# Altium schematic symbol library Schlib1.SchLib: 26 symbols
Pins are listed as number, name and electrical type; pins without a type are passive.

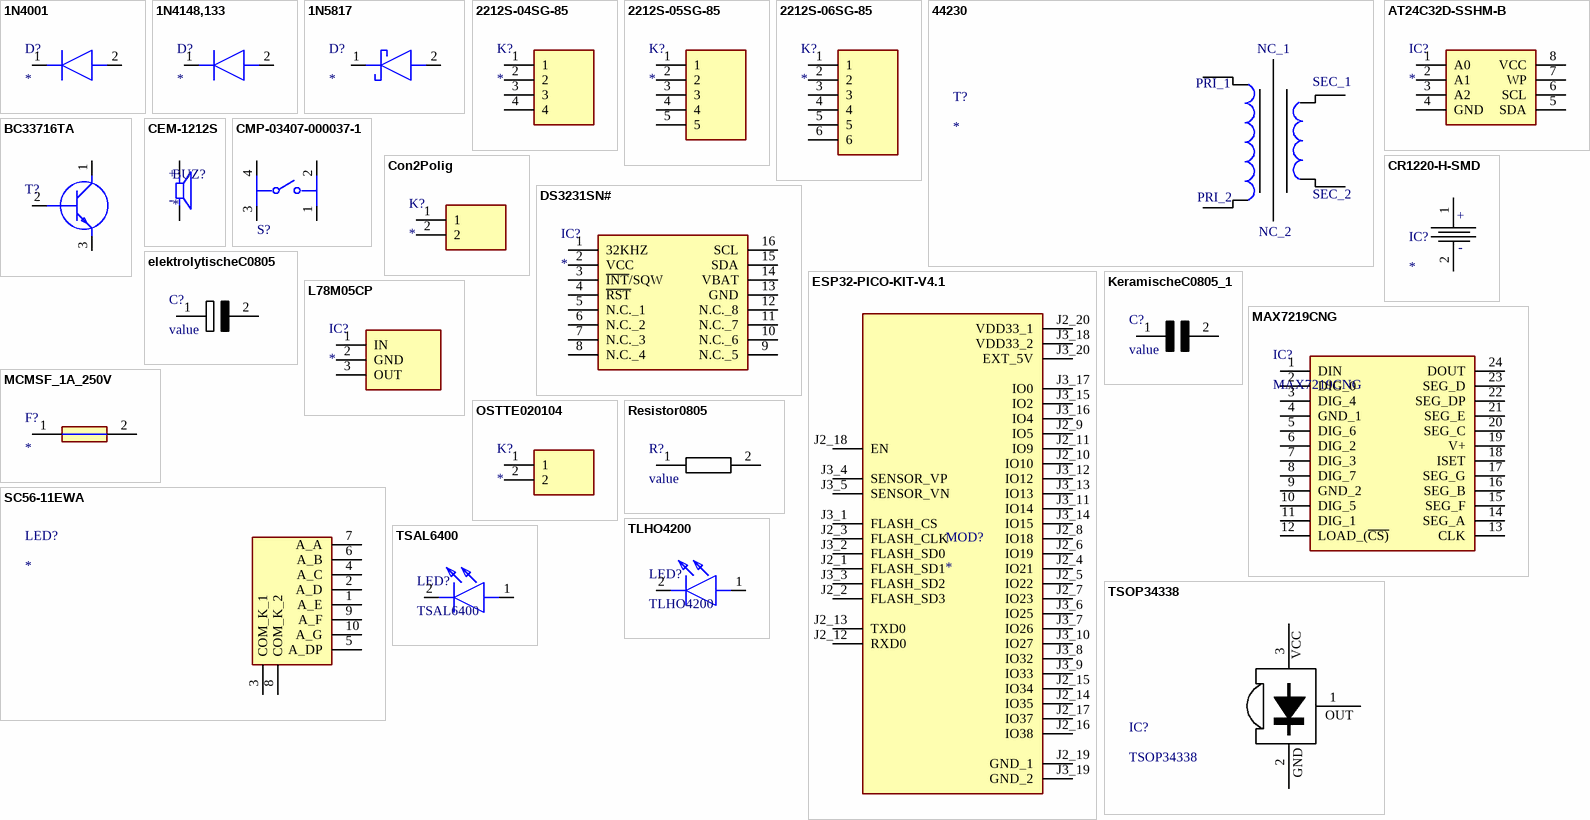
[diagram p0: symbols 1N4001 to TSOP34338]

## 1N4001
designator D?
Diode; Manufacturer_Name: Vishay; Manufacturer_Part_Number: 1N4001; Datasheet Link: https://www.vishay.com/docs/88503/1n4001.pdf
footprint DIOAD1405W86L465D235
pins: 1 K, 2 A

## 1N4148,133
designator D?
Diode; Manufacturer_Name: Nexperia; Manufacturer_Part_Number: 1N4148,133; Description: Diodes - General Purpose; Datasheet Link: https://assets.nexperia.com/documents/data-sheet/1N4148_1N4448.pdf; Mouser Part Number: 771-1N4148,133; Mouser Price/Stock: https://www.mouser.co.uk/ProductDetail/Nexperia/1N4148133?qs=elmhQ6eFu7hy8ApvpFxPZg%3D%3D; Arrow Part Number: 1N4148,133; Arrow Price/Stock: https://www.arrow.com/en/products/1n4148133/nxp-semiconductors
footprint DIOAD1165W56L425D185
pins: 1 K, 2 A

## 1N5817
designator D?
Schottky Diode; Manufacturer_Name: Rectron; Manufacturer_Part_Number: 1N5817; Datasheet Link: https://www.arrow.com/en/products/1n5817/rectron; Arrow Part Number: 1N5817; Arrow Price/Stock: https://www.arrow.com/en/products/1n5817/rectron?region=nac
footprint 1n5817_footprint
pins: 1 K, 2 A

## 2212S-04SG-85
designator K?
Connector; Manufacturer_Name: Multicomp Pro; Manufacturer_Part_Number: 2212S-04SG-85; Datasheet Link: https://componentsearchengine.com/Datasheets/5/2212S-04SG-85.pdf; Height: 8.7mm
footprint 2212S04SG85
pins: 1, 2, 3, 4

## 2212S-05SG-85
designator K?
Connector; Manufacturer_Name: Multicomp Pro; Manufacturer_Part_Number: 2212S-05SG-85; Datasheet Link: https://componentsearchengine.com/Datasheets/2/2212S-05SG-85.pdf; Height: 8.5mm
footprint RHDR5W74P0X254_1X5_1320X250X850P
pins: 1, 2, 3, 4, 5

## 2212S-06SG-85
designator K?
Connector; Manufacturer_Name: Multicomp Pro; Manufacturer_Part_Number: 2212S-06SG-85; Datasheet Link: http://www.farnell.com/datasheets/2290158.pdf?_ga=2.3406896.1671530057.1506933545-2008293027.1497013038; Height: 8.5mm
footprint RHDR6W74P0X254_1X6_1574X250X850P
pins: 1, 2, 3, 4, 5, 6

## 44230
designator T?
Transformer; Manufacturer_Name: MYRRA; Manufacturer_Part_Number: 44230; Datasheet Link: https://componentsearchengine.com/Datasheets/2/44230.pdf; Height: 32.8mm; Arrow Part Number: 44230; Arrow Price/Stock: https://www.arrow.com/en/products/44230/myrra?region=europe
footprint 44230
pins: 1 PRI_1, 5 PRI_2, 6 NC_1, 7 SEC_1, 9 SEC_2, 10 NC_2

## AT24C32D-SSHM-B
designator IC?
Integrated Circuit; Manufacturer_Name: Microchip; Description: AT24C32D-SSHM-B; Datasheet Link: http://www.atmel.com/images/atmel-8866-seeprom-at24c32d-datasheet.pdf; Height: 1.75mm; Manufacturer_Part_Number: AT24C32D-SSHM-B; Mouser Part Number: 556-AT24C32D-SSHM-B; Mouser Price/Stock: https://www.mouser.co.uk/ProductDetail/Microchip-Technology/AT24C32D-SSHM-B?qs=ZZMt4ii29sN2mTRLl%2FnVJA%3D%3D; Arrow Part Number: AT24C32D-SSHM-B; Arrow Price/Stock: https://www.arrow.com/en/products/at24c32d-sshm-b/microchip-technology?region=europe
footprint SOIC127P600X175-8N
pins: 1 A0, 2 A1, 3 A2, 4 GND, 5 SDA, 6 SCL, 7 WP, 8 VCC

## BC33716TA
designator T?  (value not drawn)
Transistor BJT NPN; Manufacturer_Name: onsemi; Datasheet Link: https://rocelec.widen.net/view/pdf/hcqqbqwrik/ONSM-S-A0003590550-1.pdf?t.download=true&u=5oefqw; Height: 8.77mm; Manufacturer_Part_Number: BC33716TA; Mouser Part Number: 512-BC33716TA; Mouser Price/Stock: https://www.mouser.co.uk/ProductDetail/onsemi-Fairchild/BC33716TA?qs=UMEuL5FsraA5fR076NzQDQ%3D%3D; Arrow Part Number: BC33716TA; Arrow Price/Stock: https://www.arrow.com/en/products/bc33716ta/on-semiconductor?region=nac
footprint BC33716TA
pins: 1 C, 2 B, 3 E

## CEM-1212S
designator BUZ?
12 mm, 12 V, 85 dB, Through Hole, Sealed, Magnetic Audio Transducer Buzzer; MP: CEM-1212S; MF: CUI Devices; Arrow_Electronics-Purchase-URL: https://snapeda.com/shop?store=Arrow+Electronics&id=601563; Value: *; SnapEDA_Link: https://www.snapeda.com/parts/CEM-1212S/CUI%20Devices/view-part/601563/?ref=snap; CUI_purchase_URL: https://www.cuidevices.com/product/audio/buzzers/audio-transducers/cem-1212s?utm_source=snapeda.com&utm_medium=referral&utm_campaign=snapedaBOM; Availability: Good; Mouser-Purchase-URL: https://snapeda.com/shop?store=Mouser&id=601563; Price: None; DigiKey-Purchase-URL: https://snapeda.com/shop?store=DigiKey&id=601563; Package: TO-220 CUI Inc.
footprint CUI_CEM-1212S
pins: M, P
text: +; -

## CMP-03407-000037-1
designator S?, comment FSM103  (value not drawn)
SWITCH TACTILE SPST-NO 0.05A 24V; Contact Resistance: 100mR; Actuator Length: 3.4mm; Switch Function: Off-Mom; Operating Force: 1.57N; Illumination Type: Non-Illuminated; Voltage Rating (DC): 12V; Current Rating: 50mA; Actuator Material: Polyester; Switch Travel: 0.3mm; Throw Configuration: SPST; Actuator Color: Black; Mechanical Life: 100000Cycles; Depth: 14.1mm; RoHS Compliant: Yes; Max Operating Temperature: 85°C; Mount: Through Hole; Min Operating Temperature: -35°C; Contact Plating: Silver; Width: 12mm; Package Quantity: 400; Radiation Hardening: No; Series: FSM100 ~ 104; Type: Switch; Termination: PC Pins; Voltage Rating: 24V; Contact Material: Brass; Max Voltage Rating (DC): 12V; Contact Current Rating: 50mA; Length: 12mm; Packaging: Loose Piece; Orientation: Straight; Max Current Rating: 50mA; Electrical Life: 100000Cycles
footprint FP-FSM103-MFG
pins: 1, 2, 3, 4

## Con2Polig
designator K?
Connector; Manufacturer_Name: On Shore Technology Inc.; Manufacturer_Part_Number: OSTTE020104; Datasheet Link: https://datasheet.datasheetarchive.com/originals/dk/DKDS-18/336634.pdf; Height: 8.7mm
footprint Con2Polig (2 polige schroefconnector)
pins: 1, 2

## CR1220-H-SMD
designator IC?
Integrated Circuit; Manufacturer_Name: ROBOTIS; Manufacturer_Part_Number: CR1220-H-SMD; Description: 1 x Battery holder - CR1220 SMD; Datasheet Link: https://www.robotics.org.za/CR1220-H-SMD; Height: 4.1mm
footprint CR1220HSMD
pins: 1, 2
text: +; -

## DS3231SN#
designator IC?
Integrated Circuit; Manufacturer_Name: Analog Devices; Manufacturer_Part_Number: DS3231SN#; Description: Real Time Clock Serial Maxim DS3231SN# Real Time Clock; Datasheet Link: https://datasheets.maximintegrated.com/en/ds/DS3231.pdf; Height: 2.65mm; Mouser Part Number: 700-DS3231SN#; Mouser Price/Stock: https://www.mouser.co.uk/ProductDetail/Analog-Devices-Maxim-Integrated/DS3231SN?qs=1eQvB6Dk1vhUlr8%2FOrV0Fw%3D%3D; Arrow Part Number: DS3231SN#; Arrow Price/Stock: https://www.arrow.com/en/products/ds3231sn/analog-devices?region=europe
footprint SOIC127P1032X265-16N
pins: 1 32KHZ, 2 VCC, 3 ~{INT}/SQW, 4 ~{RST}, 5 N.C._1, 6 N.C._2, 7 N.C._3, 8 N.C._4, 9 N.C._5, 10 N.C._6, 11 N.C._7, 12 N.C._8, 13 GND, 14 VBAT, 15 SDA, 16 SCL

## elektrolytischeC0805
designator C?, comment value
0805 ceramic capacitor; Manufacturer_Name: Murata Electronics; Manufacturer_Part_Number: GRM188R71H103KA01D; Datasheet Link: https://datasheet.datasheetarchive.com/originals/distributors/Datasheets_SAMA/ec4f1577dddcc7a13ddad897a28002d3.pdf; Height: 0.9mm; Mouser Part Number: 81-GRM39X103K50D; Mouser Price/Stock: https://www.mouser.co.uk/ProductDetail/Murata-Electronics/GRM188R71H103KA01D?qs=WWniysbtxULrL2ljbViAbw%3D%3D; Arrow Part Number: GRM188R71H103KA01D; Arrow Price/Stock: https://www.arrow.com/en/products/grm188r71h103ka01d/murata-manufacturing?region=europe
footprint C0805
pins: 1, 2

## ESP32-PICO-KIT-V4.1
designator MOD?
WiFi Development Tools (802.11); MP: ESP32-PICO-KIT-V4.1; MF: Espressif Systems; Price: None; Value: *; Package: None; SnapEDA_Link: https://www.snapeda.com/parts/ESP32-PICO-KIT-V4.1/Espressif%20Systems/view-part/3211113/?ref=snap; Check_prices: https://www.snapeda.com/parts/ESP32-PICO-KIT-V4.1/Espressif%20Systems/view-part/3211113/?ref=eda; Availability: Bad
footprint XCVR_ESP32-PICO-KIT-V4.1
pins: J2_1 FLASH_SD1, J2_2 FLASH_SD3, J2_3 FLASH_CLK, J2_4 IO21, J2_5 IO22, J2_6 IO19, J2_7 IO23, J2_8 IO18, J2_9 IO5, J2_10 IO10, J2_11 IO9, J2_12 RXD0, J2_13 TXD0, J2_14 IO35, J2_15 IO34, J2_16 IO38, J2_17 IO37, J2_18 EN, J2_19 GND_1, J2_20 VDD33_1, J3_1 FLASH_CS, J3_2 FLASH_SD0, J3_3 FLASH_SD2, J3_4 SENSOR_VP, J3_5 SENSOR_VN, J3_6 IO25, J3_7 IO26, J3_8 IO32, J3_9 IO33, J3_10 IO27, J3_11 IO14, J3_12 IO12, J3_13 IO13, J3_14 IO15, J3_15 IO2, J3_16 IO4, J3_17 IO0, J3_18 VDD33_2, J3_19 GND_2, J3_20 EXT_5V

## KeramischeC0805_1
designator C?, comment value
0805 ceramic capacitor; Manufacturer_Name: Murata Electronics; Manufacturer_Part_Number: GRM188R71H103KA01D; Datasheet Link: https://datasheet.datasheetarchive.com/originals/distributors/Datasheets_SAMA/ec4f1577dddcc7a13ddad897a28002d3.pdf; Height: 0.9mm; Mouser Part Number: 81-GRM39X103K50D; Mouser Price/Stock: https://www.mouser.co.uk/ProductDetail/Murata-Electronics/GRM188R71H103KA01D?qs=WWniysbtxULrL2ljbViAbw%3D%3D; Arrow Part Number: GRM188R71H103KA01D; Arrow Price/Stock: https://www.arrow.com/en/products/grm188r71h103ka01d/murata-manufacturing?region=europe
footprint C0805
pins: 1, 2

## L78M05CP
designator IC?
Integrated Circuit; Manufacturer_Name: STMicroelectronics; Manufacturer_Part_Number: L78M05CP; Datasheet Link: http://www.st.com/web/en/resource/technical/document/datasheet/CD00000447.pdf; Height: 4.6mm; Mouser Part Number: 511-L78M05CP; Mouser Price/Stock: https://www.mouser.co.uk/ProductDetail/STMicroelectronics/L78M05CP?qs=W%252B4obUA0F3anQylSbAkrfw%3D%3D; Arrow Part Number: L78M05CP; Arrow Price/Stock: https://www.arrow.com/en/products/l78m05cp/stmicroelectronics?region=europe
footprint TO255P460X1020X2030-3P
pins: 1 IN (power), 2 GND (power), 3 OUT (power)

## MAX7219CNG
designator IC?
Integrated Circuit; Manufacturer_Name: Analog Devices; Datasheet Link: https://datasheets.maximintegrated.com/en/ds/MAX7219-MAX7221.pdf; Height: 4.572mm; Manufacturer_Part_Number: MAX7219CNG; Mouser Part Number: 700-MAX7219CNG-NR; Mouser Price/Stock: https://www.mouser.co.uk/ProductDetail/Maxim-Integrated/MAX7219CNG?qs=p6VZ%252BklCkRToQRlZGegBBA%3D%3D
footprint DIP794W56P254L3054H457Q24N
pins: 1 DIN, 2 DIG_0, 3 DIG_4, 4 GND_1, 5 DIG_6, 6 DIG_2, 7 DIG_3, 8 DIG_7, 9 GND_2, 10 DIG_5, 11 DIG_1, 12 LOAD_(~{CS)}, 13 CLK, 14 SEG_A, 15 SEG_F, 16 SEG_B, 17 SEG_G, 18 ISET, 19 V+, 20 SEG_C, 21 SEG_E, 22 SEG_DP, 23 SEG_D, 24 DOUT

## MCMSF_1A_250V
designator F?
Fuse; Manufacturer_Name: Multicomp Pro; Manufacturer_Part_Number: MCMSF 1A 250V; Datasheet Link: https://componentsearchengine.com/Datasheets/2/MCMSF%201A%20250V.pdf; Height: 7.7mm
footprint MCMSF1A250V
pins: 1, 2

## OSTTE020104
designator K?
Connector; Manufacturer_Name: On Shore Technology Inc.; Manufacturer_Part_Number: OSTTE020104; Datasheet Link: https://datasheet.datasheetarchive.com/originals/dk/DKDS-18/336634.pdf; Height: 8.7mm
footprint OSTTE020104
pins: 1, 2

## Resistor0805
designator R?, comment value
Resistor0805; Manufacturer_Name: Vishay; Manufacturer_Part_Number: CRCW08050000Z0EAHP; Datasheet Link: https://componentsearchengine.com/Datasheets/1/CRCW08051R00FKEAHP.pdf; Height: 0.6mm; Mouser Part Number: 71-CRCW08050000Z0EAH; Mouser Price/Stock: https://www.mouser.co.uk/ProductDetail/Vishay-Dale/CRCW08050000Z0EAHP?qs=pTGEtN%252BMLlDLrJUqQmN2jA%3D%3D; Arrow Part Number: CRCW08050000Z0EAHP; Arrow Price/Stock: https://www.arrow.com/en/products/crcw08050000z0eahp/vishay?region=nac
footprint RESC2012X60N
pins: 1, 2

## SC56-11EWA
designator LED?
Display; Manufacturer_Name: Kingbright; Manufacturer_Part_Number: SC56-11EWA; Datasheet Link: https://www.kingbrightusa.com/images/catalog/SPEC/SC56-11EWA.pdf; Height: 8.25mm; Mouser Part Number: 604-SC56-11EWA; Mouser Price/Stock: https://www.mouser.co.uk/ProductDetail/Kingbright/SC56-11EWA?qs=y3UkhjaxUTZA9319us7IBQ%3D%3D
footprint DIPS1524W75P254L1270H825Q10N
pins: 1 A_E, 2 A_D, 3 COM_K_1, 4 A_C, 5 A_DP, 6 A_B, 7 A_A, 8 COM_K_2, 9 A_F, 10 A_G

## TLHO4200
designator LED?
LED; Manufacturer_Name: Vishay; Datasheet Link: https://www.mouser.com/datasheet/2/427/tlhg420-1767350.pdf; Height: 6.1mm; Manufacturer_Part_Number: TLHO4200
footprint TLHO4200
pins: 1 A, 2 K

## TSAL6400
designator LED?
LED; Manufacturer_Name: Vishay; Datasheet Link: https://componentsearchengine.com/Datasheets/1/TSAL6400.pdf; Height: 9.7mm; Manufacturer_Part_Number: TSAL6400; Mouser Part Number: 782-TSAL6400; Mouser Price/Stock: https://www.mouser.co.uk/ProductDetail/Vishay-Semiconductors/TSAL6400?qs=oSAwVt7aKTHCOCv1ythi7g%3D%3D; Arrow Part Number: TSAL6400; Arrow Price/Stock: https://www.arrow.com/en/products/tsal6400/vishay?region=nac
footprint TSAL6400
pins: 1 A, 2 K

## TSOP34338
designator IC?
No Description Available; Mfr_Name: Vishay; Type: Type; RefDes: RefDes
footprint TO_TSOP31236
pins: 1 OUT, 2 GND (power), 3 VS (power)
text: VCC